# Altium footprint library 1849521.PcbLib: 1 footprints
Each footprint in its own frame and in the unit in brackets; x right, y up, seen from the top. Pads: shape width x height; smd on the part's side, far side on the other; paste and mask are expansions set on the pad; w line width, h text height; cw(c..) or ccw(c..) is an arc to the next point about the centre after c.
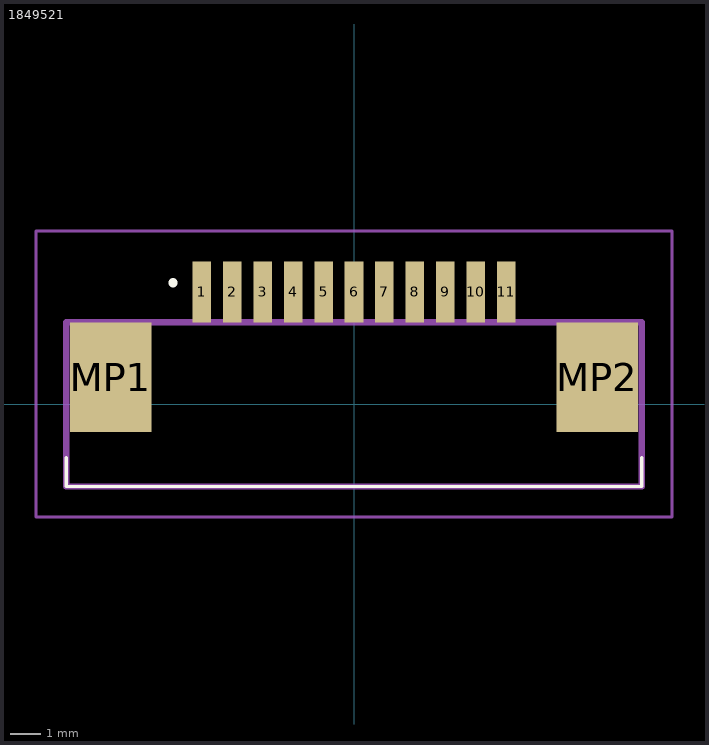
[diagram p0: the footprint, top view; thin cyan lines are the x and y axes]

## 1849521 [mm]
pads (13):
  rect 0.61x2 smd: 1(-5,3.7) 2(-4,3.7) 3(-3,3.7) 4(-2,3.7) 5(-1,3.7) 6(0,3.7) 7(1,3.7) 8(2,3.7) 9(3,3.7) 10(4,3.7) 11(5,3.7)
  rect 2.68x3.6 smd: MP1(-7.99,0.9) MP2(7.99,0.9)
Top Overlay:
  lines w0.1: -9.46,-2.7 -9.46,-1.75 ; -9.46,-2.7 -9.46,-2.7 ; -9.46,-2.7 -9.46,-1.75 ; -9.46,-2.7 9.46,-2.7 ; -9.46,-2.7 9.46,-2.7 ; -9.46,-2.7 -9.46,-2.7 ; -9.46,-1.75 -9.46,-1.75 ; 9.46,-2.7 9.46,-2.7 ; 9.46,-2.7 9.46,-2.7 ; 9.46,-2.7 9.46,-1.75 ; 9.46,-2.7 9.46,-1.75 ; 9.46,-1.75 9.46,-1.75
  lines w0.2: -6,4 -6,4 ; -6,4 ccw(c-5.95,4) -5.9,4 ; -6,4 cw(c-5.95,4) -5.9,4 ; -6,4 -6,4 ; -6,4 ccw(c-5.95,4) -5.9,4 ; -5.9,4 -5.9,4
Mechanical 15:
  lines w0.2: -9.46,-2.7 9.46,-2.7 9.46,2.7 -9.46,2.7 -9.46,-2.7
Mechanical 20:
  lines w0.1: -10.46,-3.7 10.46,-3.7 10.46,5.7 -10.46,5.7 -10.46,-3.7